# EAGLE library part 750310042 (library WE-POE++)
WE-PoE++ Power over Ethernet Plus Plus Transformer Characteristics Suitable for CCM Flyback or Active Clamp Forward Different power levels up to 95W Frequency range: 250-400 kHz Different output voltages available Custom designs available Applications Telecom Industrial Applications WLAN Access Point Safety cameras Intelligent LED Lighting Networks <https://www.we-online.com/components/media/o721702v209%20FAMILY-MID-POE%2B%2B.jpg> Details see: www.we-online.com/en/components/products/WE-POE-PLUS-PLUS <www.we-online.com/catalog/WE-POE-PLUS-PLUS/?utm_source=eagle_model&utm_medium=description_link&utm_campaign=eisos_eagle> Created by Ella 2024-01-30 2024(C) Wurth Elektronik
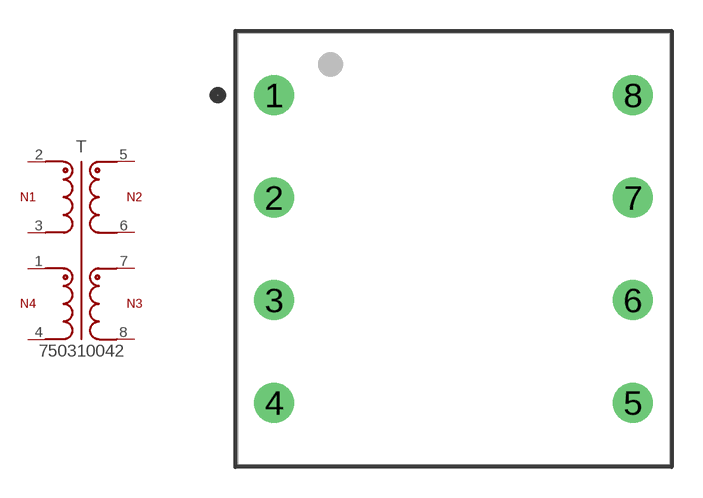
[diagram p17: symbol with the pads of WE-POE++_EFD20_L21.08W21.08H10.8; footprint WE-POE++_EFD20_L21.08W21.08H10.8]

Designator prefix T

## 750310042 (DATASHEET-URL: https://www.we-online.com/redexpert/spec/750310042?ae; IO1: 5A; IO2: 1.6A; L: 154uH; N: 2:1:1:1; PART-NUMBER: 750310042; SIZE: EFD20; VALUE: 750310042; VAUX: 12V; VERSION: Forward; VIN: 30 - 57 V (DC); VO1: 12V; VO2: -12V; VT: 1500V(AC))  [WE-POE++_EFD20_L21.08W21.08H10.8]
1  1  pas
2  2  pas
3  3  pas
4  4  pas
5  5  pas
6  6  pas
7  7  pas
8  8  pas

## Footprint WE-POE++_EFD20_L21.08W21.08H10.8 (pad centres in mm)
WE-PoE++ Power over Ethernet Plus Plus Transformer Size: EFD20, THT, 10Pins LXWXH=29.65X21.8X11.43mm
drill 1.3: 1 -8.75,7.5; 2 -8.75,2.5; 3 -8.75,-2.5; 4 -8.75,-7.5; 5 8.75,-7.5; 6 8.75,-2.5; 7 8.75,2.5; 8 8.75,7.5